# EAGLE library part 734-576 (library con-wago_3.81mm)
Serie 734, Federleiste mit abgewinkelten Einlötstiften / Series 734, Female connector with angled solder pins Polzahl / Pole No.: 16 Bemessungsspannung / Rated Voltage: 160 V Nennstrom / Nominal Current: 10 A Lötstiftlänge: / Solder Pin Length: 3.8 mm Farbe / Color: orange / orange Stand: 01.01.2012. Die jeweils aktuellen Daten zu diesem Artikel finden Sie in unserem Produktkatalog, den Sie unter www.wago.com einsehen können. As of: 01/01/2012. Please find the newest data for this article in our product catalogue, which can be viewed under www.wago.com.
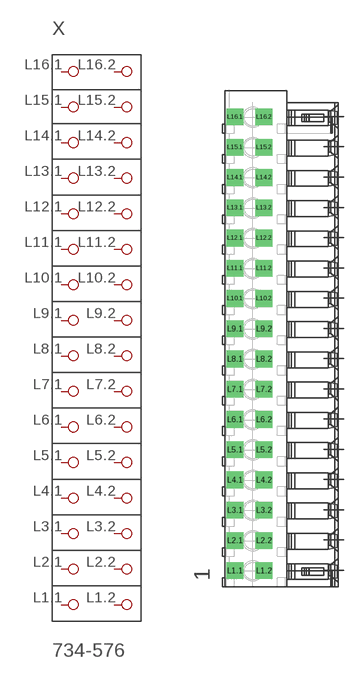
[diagram p57: symbol with the pads of P-734-576; footprint P-734-576]

Designator prefix X

## 734-576  [P-734-576]
L1.1  P1.1
L1.2  P1.2
L2.1  P2.1
L2.2  P2.2
L3.1  P3.1
L3.2  P3.2
L4.1  P4.1
L4.2  P4.2
L5.1  P5.1
L5.2  P5.2
L6.1  P6.1
L6.2  P6.2
L7.1  P7.1
L7.2  P7.2
L8.1  P8.1
L8.2  P8.2
L9.1  P9.1
L9.2  P9.2
L10.1  P10.1
L10.2  P10.2
L11.1  P11.1
L11.2  P11.2
L12.1  P12.1
L12.2  P12.2
L13.1  P13.1
L13.2  P13.2
L14.1  P14.1
L14.2  P14.2
L15.1  P15.1
L15.2  P15.2
L16.1  P16.1
L16.2  P16.2

## Footprint P-734-576 (pad centres in mm)
drill 1.4 square: L1.1 -6.052,-29.22; L1.2 -2.402,-29.22; L2.1 -6.052,-25.41; L2.2 -2.402,-25.41; L3.1 -6.052,-21.6; L3.2 -2.402,-21.6; L4.1 -6.052,-17.79; L4.2 -2.402,-17.79; L5.1 -6.052,-13.98; L5.2 -2.402,-13.98; L6.1 -6.052,-10.17; L6.2 -2.402,-10.17; L7.1 -6.052,-6.36; L7.2 -2.402,-6.36; L8.1 -6.052,-2.55; L8.2 -2.402,-2.55; L9.1 -6.052,1.26; L9.2 -2.402,1.26; L10.1 -6.052,5.07; L10.2 -2.402,5.07; L11.1 -6.052,8.88; L11.2 -2.402,8.88; L12.1 -6.052,12.69; L12.2 -2.402,12.69; L13.1 -6.052,16.5; L13.2 -2.402,16.5; L14.1 -6.052,20.31; L14.2 -2.402,20.31; L15.1 -6.052,24.12; L15.2 -2.402,24.12; L16.1 -6.052,27.93; L16.2 -2.402,27.93